# Altium footprint library Connector_USB.PcbLib: 76 footprints (part 1 of 5)
Each footprint in its own frame and in the unit in brackets; x right, y up, seen from the top. Pads: shape width x height; smd on the part's side, far side on the other; paste and mask are expansions set on the pad; w line width, h text height; cw(c..) or ccw(c..) is an arc to the next point about the centre after c.
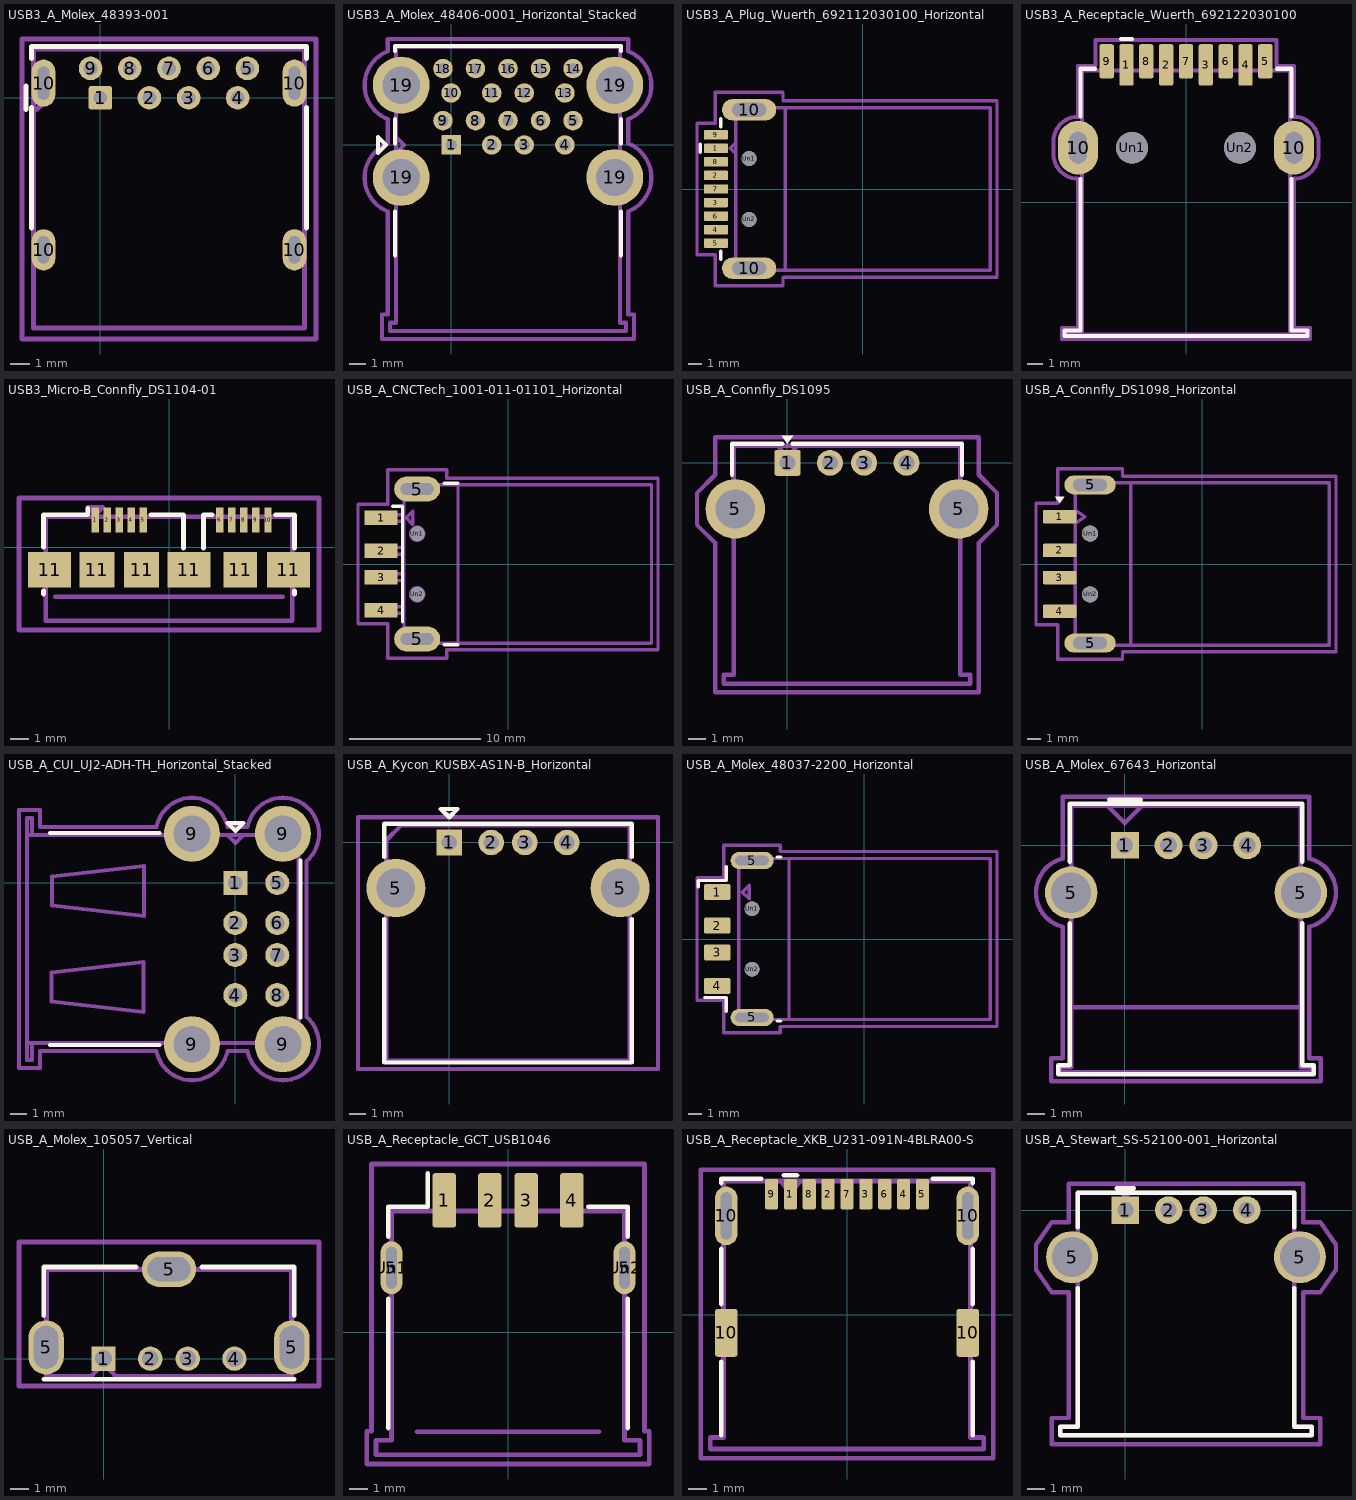
[diagram p0: the footprints below, top view; thin cyan lines are the x and y axes]

## USB3_A_Molex_48393-001 [mm]
pads (13):
  rrect21% 1.2x1.2 hole 0.7: 1(0,0)
  round 1.2 hole 0.7: 2(2.5,0) 3(4.5,0) 4(7,0) 5(7.5,1.5) 6(5.5,1.5) 7(3.5,1.5) 8(1.5,1.5) 9(-0.5,1.5)
  rrect100% 1.2x2.1 hole 1.4 slot 0.6 at 0 deg: 10(-2.9,-7.75) 10(9.9,-7.75)
  rrect100% 1.2x2.4 hole 1.7 slot 0.6 at 0 deg: 10(-2.9,0.75) 10(9.9,0.75)
F.SilkS:
  lines w0.254: -3.8,-0.6 -3.8,0.6 ; -3.51,-6.65 -3.51,-0.5 ; -3.51,2 -3.51,2.61 10.51,2.61 10.51,2 ; 10.51,-6.65 10.51,-0.5
Top Assembly:
  lines w0.254: -3.4,-0.7 -2.55,0 -3.4,0.7 ; -3.4,-11.75 -3.4,2.5 10.4,2.5 10.4,-11.75 -3.4,-11.75
  text "'.Designator'" at -0.547,-5.84 h1
Top Courtyard:
  lines w0.254: -4,-12.3 -4,3 11,3 11,-12.3 -4,-12.3
Top Designator:
  text ".Designator" at -4.118,-5.158 h1.52

## USB3_A_Molex_48406-0001_Horizontal_Stacked [mm]
pads (22):
  rect 1.2x1.2 hole 0.7: 1(0,0)
  round 1.2 hole 0.7: 2(2.5,0) 3(4.5,0) 4(7,0) 5(7.5,1.5) 6(5.5,1.5) 7(3.5,1.5) 8(1.5,1.5) 9(-0.5,1.5) 10(0,3.2) 11(2.5,3.2) 12(4.5,3.2) 13(7,3.2) 14(7.5,4.7) 15(5.5,4.7) 16(3.5,4.7) 17(1.5,4.7) 18(-0.5,4.7)
  round 3.5 hole 2.3: 19(-3.07,-2) 19(-3.07,3.68) 19(10.07,-2) 19(10.07,3.68)
F.SilkS:
  lines w0.254: -3.46,-6.8 -3.46,-4.1 ; -3.46,0.1 -3.46,1.58 ; -3.46,5.78 -3.46,6.08 10.46,6.08 10.46,5.78 ; 10.46,-6.8 10.46,-4.1 ; 10.46,0.1 10.46,1.58 ; -4.5,-0.5 -4,0 -4.5,0.5 -4.5,-0.5
Top Assembly:
  lines w0.254: -3.4,-0.5 -2.9,0 -3.4,0.5 ; -3.75,-11.44 10.75,-11.44 10.75,-10.94 10.4,-10.94 10.4,6.02 -3.4,6.02 -3.4,-10.94 -3.75,-10.94 -3.75,-11.44
  text "'.Designator'" at -0.547,-5.84 h1
Top Courtyard:
  lines w0.254: -4.25,-11.94 -3.9,-11.94 10.9,-11.94 11.25,-11.94 11.25,-10.44 10.9,-10.44 10.9,-4.09 ccw(c10.072,-2) 10.9,0.09 10.9,1.59 ccw(c10.072,3.68) 10.9,5.77 10.9,6.52 -3.9,6.52 -3.9,5.77 ccw(c-3.072,3.68) -3.9,1.59 -3.9,0.09 ccw(c-3.072,-2) -3.9,-4.09 -3.9,-10.44 -4.25,-10.44 -4.25,-11.94
Top Designator:
  text ".Designator" at -4.118,-3.218 h1.52

## USB3_A_Plug_Wuerth_692112030100_Horizontal [mm]
pads (13):
  rrect25% 1.8x0.7 smd: 1(-10.85,3) 2(-10.85,1) 3(-10.85,-1) 4(-10.85,-3) 5(-10.85,-4) 6(-10.85,-2) 7(-10.85,0) 8(-10.85,2) 9(-10.85,4)
  rrect100% 4x1.6 hole 2.5 slot 1 at 90 deg: 10(-8.4,-5.85) 10(-8.4,5.85)
  round 1.1 hole 1.1: Un1(-8.4,2.25) Un2(-8.4,-2.25)
F.SilkS:
  lines w0.254: -12.01,2.7 -12.01,3.3 ; -10.5,-5.19 -10.5,-4.61 ; -10.5,4.61 -10.5,5.19
Top Assembly:
  lines w0.254: -9.4,2.6 -9.8,3 -9.4,3.4 ; -9.4,-6 9.4,-6 9.4,6 -9.4,6 -9.4,-6
  text "'.Designator'" at -4.047,-0.84 h1
Top Courtyard:
  lines w0.254: -12.25,-4.85 -10.9,-4.85 -10.9,-7.15 -5.9,-7.15 -5.9,-6.5 9.9,-6.5 9.9,6.5 -5.9,6.5 -5.9,7.15 -10.9,7.15 -10.9,4.85 -12.25,4.85 -12.25,-4.85
Top Designator:
  text ".Designator" at -8.793,-0.508 h1.52
Dwgs.User:
  lines w0.254: -5.75,-6 -5.75,6
  text "PCB Edge" at -5.91,-2.068 h0.6

## USB3_A_Receptacle_Wuerth_692122030100 [mm]
pads (13):
  rrect25% 0.9x2.6 smd: 1(-3.75,8.67) 2(-1.25,8.67) 3(1.25,8.67) 4(3.75,8.67)
  rrect25% 0.9x2.15 smd: 5(5,8.895) 6(2.5,8.895) 7(0,8.895) 8(-2.5,8.895) 9(-5,8.895)
  rrect100% 2.52x3.4 hole 2 slot 1.12 at 0 deg: 10(-6.8,3.45) 10(6.8,3.45)
  round 2 hole 2: Un1(-3.4,3.45) Un2(3.4,3.45)
F.SilkS:
  lines w0.254: -6.65,1.475 -6.65,-8.05 -7.65,-8.05 -7.65,-8.425 7.65,-8.425 7.65,-8.05 6.65,-8.05 6.65,1.475 ; -6.65,5.425 -6.65,8.425 -5.725,8.425 ; -4.1,10.3 -3.4,10.3 ; 5.725,8.425 6.65,8.425 6.65,5.425
Top Assembly:
  lines w0.254: -4.15,8.33 -3.75,8.73 -3.35,8.33 ; -7.55,-8.33 -6.55,-8.33 6.55,-8.33 7.55,-8.33 7.55,-8.15 6.55,-8.15 6.55,8.33 -6.55,8.33 -6.55,-8.15 -7.55,-8.15 -7.55,-8.33
  text "'.Designator'" at -4.047,2.06 h1
Top Courtyard:
  lines w0.254: -8.35,3.05 ccw(c-6.8,3.05) -6.8,1.5 -6.8,-7.9 -7.8,-7.9 -7.8,-8.6 7.8,-8.6 7.8,-7.9 6.8,-7.9 6.8,1.5 ccw(c6.8,3.05) 8.35,3.05 8.35,3.85 ccw(c6.8,3.85) 6.8,5.4 6.8,8.6 5.7,8.6 5.7,10.25 -5.7,10.25 -5.7,8.6 -6.8,8.6 -6.8,5.4 ccw(c-6.8,3.85) -8.35,3.85 -8.35,3.05
Top Designator:
  text ".Designator" at -7.618,0.342 h1.52

## USB3_Micro-B_Connfly_DS1104-01 [mm]
pads (16):
  rect 0.4x1.35 smd: 1(-3.975,1.475) 2(-3.325,1.475) 3(-2.675,1.475) 4(-2.025,1.475) 5(-1.375,1.475) 6(2.725,1.475) 7(3.375,1.475) 8(4.025,1.475) 9(4.675,1.475) 10(5.325,1.475)
  rect 2.3x1.9 smd: 11(-6.425,-1.2) 11(1.075,-1.2) 11(6.425,-1.2)
  rect 1.9x1.9 smd: 11(-3.875,-1.2) 11(-1.475,-1.2)
  rect 1.8x1.9 smd: 11(3.825,-1.2)
F.SilkS:
  lines w0.254: -6.75,-2.525 -6.75,-2.35 ; -6.75,0 -6.75,1.75 -4.375,1.75 -4.375,2.1 ; -0.975,1.75 0.775,1.75 0.775,-0.05 ; 1.855,-0.05 1.855,1.75 2.325,1.75 ; 5.725,1.75 6.75,1.75 6.75,-0.05 ; 6.75,-2.525 6.75,-2.35
Top Assembly:
  lines w0.254: -6.125,-2.65 6.125,-2.65 ; -6.635,-3.95 6.635,-3.95 6.635,1.65 -6.635,1.65 -6.635,-3.95 ; -4.375,2.15 -3.575,2.15 -3.975,1.75 -4.375,2.15
  text "'.Designator'" at -4.047,-0.381 h1
Top Courtyard:
  lines w0.254: -8.07,-4.45 8.07,-4.45 8.07,2.66 -8.07,2.66 -8.07,-4.45
Top Designator:
  text ".Designator" at -7.618,-1.403 h1.52
Dwgs.User:
  text "PCB Edge" at -1.359,-2.957 h0.4

## USB_A_CNCTech_1001-011-01101_Horizontal [mm]
pads (8):
  rect 2.5x1.1 smd: 1(-9.65,3.5) 2(-9.65,1) 3(-9.65,-1) 4(-9.65,-3.5)
  rrect100% 3.5x1.9 hole 0.9 slot 2.5 at 0 deg: 5(-6.9,-5.7) 5(-6.9,5.7)
  round 1.1 hole 1.1: Un1(-6.9,2.3) Un2(-6.9,-2.3)
F.SilkS:
  lines w0.254: -8.775,4.4 -8.02,4.4 -8.02,-4.4 ; -4.85,-6.145 -3.8,-6.145 ; -4.85,6.145 -3.8,6.145
Top Assembly:
  circle w0.254: c-6.9,-2.3 r0.5
  circle w0.254: c-6.9,2.3 r0.5
  lines w0.254: -7.9,-3.75 -10.4,-3.75 -10.4,-3.25 -7.9,-3.25 ; -7.9,-1.25 -10.4,-1.25 -10.4,-0.75 -7.9,-0.75 ; -7.9,0.75 -10.4,0.75 -10.4,1.25 -7.9,1.25 ; -7.9,3.25 -10.4,3.25 -10.4,3.75 -7.9,3.75 ; -7.25,3 -7.75,3.5 -7.25,4 -7.25,3.05 ; -7.9,-6.025 10.9,-6.025 10.9,6.025 -7.9,6.025 -7.9,-6.025
  text "'.Designator'" at -5.16,-4.047 h1
Top Courtyard:
  lines w0.254: -11.4,-4.55 -9.15,-4.55 -9.15,-7.15 -4.65,-7.15 -4.65,-6.52 11.4,-6.52 11.4,6.52 -4.65,6.52 -4.65,7.15 -9.15,7.15 -9.15,4.55 -11.4,4.55 -11.4,-4.55
Top Designator:
  text ".Designator" at -7.618,-0.508 h1.52
Dwgs.User:
  lines w0.254: -3.8,-6.025 -3.8,6.025
  text "PCB Edge" at -4.06,-2.018 h0.6

## USB_A_Connfly_DS1095 [mm]
pads (6):
  rrect16% 1.524x1.524 hole 0.92: 1(0,0)
  round 1.524 hole 0.92: 2(2.5,0) 3(4.5,0) 4(7,0)
  round 3.5 hole 2.3: 5(-3.07,-2.71) 5(10.07,-2.71)
F.SilkS:
  region: 0,1.12 -0.34,1.59 0.34,1.59
  lines w0.254: -3.26,-0.7 -3.26,1.12 -0.3,1.12 ; 0.3,1.12 10.26,1.12 10.26,-0.7
Top Assembly:
  lines w0.254: -0.57,1.01 0,0.3 0.57,1.01 ; -3.75,-12.99 10.75,-12.99 10.75,-12.46 10.15,-12.46 10.15,1.01 -3.15,1.01 -3.15,-12.46 -3.75,-12.46 -3.75,-12.99
  text "'.Designator'" at -0.547,-6.83 h1
Top Courtyard:
  lines w0.254: -5.32,-3.65 -4.25,-4.72 -4.25,-13.49 11.25,-13.49 11.25,-4.72 12.32,-3.65 12.32,-1.77 11.25,-0.7 11.25,1.51 -4.25,1.51 -4.25,-0.7 -5.32,-1.77 -5.32,-3.65
Top Designator:
  text ".Designator" at -4.118,-6.498 h1.52

## USB_A_Connfly_DS1098_Horizontal [mm]
pads (8):
  rrect25% 2.5x1 smd: 1(-10.55,3.5) 2(-10.55,1) 3(-10.55,-1) 4(-10.55,-3.5)
  rrect100% 3.8x1.4 hole 0.9 slot 2.5 at 0 deg: 5(-8.3,-5.85) 5(-8.3,5.85)
  round 1.2 hole 1.2: Un1(-8.3,2.25) Un2(-8.3,-2.25)
F.SilkS:
  region: -10.55,4.502 -10.89,4.972 -10.21,4.972
Top Assembly:
  lines w0.254: -9.4,3 -8.7,3.5 -9.4,4 ; -9.4,-6 9.4,-6 9.4,6 -9.4,6 -9.4,-6
  text "'.Designator'" at -4.047,-0.84 h1
Top Courtyard:
  lines w0.254: -12.3,-4.5 -10.7,-4.5 -10.7,-7.05 -5.9,-7.05 -5.9,-6.5 9.9,-6.5 9.9,6.5 -5.9,6.5 -5.9,7.05 -10.7,7.05 -10.7,4.5 -12.3,4.5 -12.3,-4.5
Top Designator:
  text ".Designator" at -8.818,-0.508 h1.52
Dwgs.User:
  lines w0.254: -5.3,-6 -5.3,6
  text "PCB Edge" at -3.81,-2.068 h0.6

## USB_A_CUI_UJ2-ADH-TH_Horizontal_Stacked [mm]
pads (12):
  rect 1.5x1.5 hole 0.92: 1(0,0)
  round 1.5 hole 0.92: 2(0,-2.5) 3(0,-4.5) 4(0,-7) 5(2.62,0) 6(2.62,-2.5) 7(2.62,-4.5) 8(2.62,-7)
  round 3.5 hole 2.3: 9(-2.71,-10.07) 9(-2.71,3.07) 9(2.97,-10.07) 9(2.97,3.07)
F.SilkS:
  lines w0.254: -11.58,-10.13 -4.73,-10.13 ; -11.58,3.13 -4.73,3.13 ; 4.07,-8.4 4.07,1.4 ; -0.5,3.75 0.5,3.75 0,3.25 -0.5,3.75
Top Assembly:
  lines w0.254: -0.5,3 0,2.5 0.5,3 ; -13.01,-10 -12.71,-10 -12.71,-11.05 -13.01,-11.05 -13.01,-10 ; -13.01,-10 3.94,-10 3.94,3 -13.01,3 ; -13.01,-10 -13.01,3 ; -13.01,3 -12.71,3 -12.71,4.05 -13.01,4.05 -13.01,3 ; -11.49,-7.405 -5.74,-8.065 -5.74,-4.935 -11.49,-5.595 -11.49,-7.405 ; -11.46,-1.405 -5.71,-2.065 -5.71,1.065 -11.46,0.405 -11.46,-1.405
  text "'.Designator'" at -8.582,-4.34 h1
Top Courtyard:
  lines w0.254: -13.51,-11.55 -12.21,-11.55 -12.21,-10.5 -4.92,-10.5 ccw(c-2.71,-10.07) -0.5,-10.5 0.76,-10.5 ccw(c2.972,-10.07) 4.44,-8.36 4.44,1.36 ccw(c2.972,3.07) 0.76,3.5 -0.5,3.5 ccw(c-2.71,3.07) -4.92,3.5 -12.21,3.5 -12.21,4.55 -13.51,4.55 -13.51,-11.55
Top Designator:
  text ".Designator" at -11.76,-4.008 h1.52

## USB_A_Kycon_KUSBX-AS1N-B_Horizontal [mm]
pads (6):
  rect 1.524x1.524 hole 0.92: 1(0,0)
  round 1.524 hole 0.92: 2(2.5,0) 3(4.5,0) 4(7,0)
  round 3.5 hole 2.3: 5(-3.175,-2.71) 5(10.175,-2.71)
F.SilkS:
  lines w0.254: -3.86,-4.56 -3.86,-13.1 10.86,-13.1 10.86,-4.56 ; -3.86,-0.86 -3.86,1.12 10.86,1.12 10.86,-0.86 ; -0.5,2 0.5,2 0,1.5 -0.5,2
Top Assembly:
  lines w0.254: -3.75,-12.99 10.75,-12.99 10.75,1.01 -2.87,1.01 -3.75,0.13 -3.75,-12.99
  text "'.Designator'" at -1.047,-5.84 h1
Top Courtyard:
  lines w0.254: -5.43,-13.49 12.43,-13.49 12.43,1.51 -5.43,1.51 -5.43,-13.49
Top Designator:
  text ".Designator" at -4.118,-6.253 h1.52

## USB_A_Molex_48037-2200_Horizontal [mm]
pads (8):
  rrect25% 2x1.2 smd: 1(-10.975,3.5) 2(-10.975,1) 3(-10.975,-1) 4(-10.975,-3.5)
  rrect100% 3.2x1.3 hole 0.7 slot 2.5 at 0 deg: 5(-8.375,-5.85) 5(-8.375,5.85)
  round 1.1 hole 1.1: Un1(-8.375,2.25) Un2(-8.375,-2.25)
F.SilkS:
  lines w0.254: -12.4,3.9 -12.4,4.36 -10.3,4.36 -10.3,5.4 ; -11.92,-4.36 -10.3,-4.36 -10.3,-5.4 ; -6.515,-6.11 -6.245,-6.11 ; -6.515,6.11 -6.245,6.11
Top Assembly:
  lines w0.254: -9.375,-6 9.375,-6 9.375,6 -9.375,6 -9.375,-6 ; -9.1,3.5 -8.6,3 -8.6,4 -9.1,3.5
  text "'.Designator'" at -4.047,-0.84 h1
Top Courtyard:
  lines w0.254: -12.48,-4.55 -10.48,-4.55 -10.48,-7 -6.27,-7 -6.27,-6.52 9.88,-6.52 9.88,6.52 -6.27,6.52 -6.27,7 -10.48,7 -10.48,4.55 -12.48,4.55 -12.48,-4.55
Top Designator:
  text ".Designator" at -8.918,-0.508 h1.52
Dwgs.User:
  lines w0.254: -5.625,-6 -5.625,6
  text "PCB Edge" at -5.76,-2.068 h0.6

## USB_A_Molex_67643_Horizontal [mm]
pads (6):
  rect 1.6x1.5 hole 0.95: 1(0,0)
  round 1.6 hole 0.95: 2(2.5,0) 3(4.5,0) 4(7,0)
  round 3 hole 2.3: 5(-3.07,-2.71) 5(10.07,-2.71)
F.SilkS:
  lines w0.254: -3.16,-4.47 -3.16,-12.58 -3.81,-12.58 -3.81,-13.1 10.81,-13.1 10.81,-12.58 10.16,-12.58 10.16,-4.47 ; -3.16,-0.95 -3.16,2.38 10.16,2.38 10.16,-0.95 ; -0.9,2.6 0.9,2.6
Top Assembly:
  lines w0.254: -3.05,-9.27 10.05,-9.27 ; -1,2.27 0,1.27 1,2.27 ; -3.7,-12.99 10.7,-12.99 10.7,-12.69 10.05,-12.69 10.05,2.27 -3.05,2.27 -3.05,-12.69 -3.7,-12.69 -3.7,-12.99
  text "'.Designator'" at -0.547,-4.54 h1
Top Courtyard:
  lines w0.254: -4.2,-13.49 11.2,-13.49 11.2,-12.19 10.55,-12.19 10.55,-4.66 ccw(c10.07,-2.71) 10.55,-0.76 10.55,2.77 -3.55,2.77 -3.55,-0.76 ccw(c-3.07,-2.71) -3.55,-4.66 -3.55,-12.19 -4.2,-12.19 -4.2,-13.49
Top Designator:
  text ".Designator" at -4.118,-5.868 h1.52

## USB_A_Molex_105057_Vertical [mm]
pads (7):
  rect 1.3x1.3 hole 0.9: 1(0,0)
  round 1.3 hole 0.9: 2(2.5,0) 3(4.5,0) 4(7,0)
  rrect100% 1.9x2.9 hole 2.3 slot 1.3 at 0 deg: 5(-3.07,0.6) 5(10.07,0.6)
  rrect100% 2.9x1.9 hole 2.3 slot 1.3 at 90 deg: 5(3.5,4.78)
F.SilkS:
  lines w0.254: -3.2,-1.1 10.2,-1.1 ; -3.2,2.3 -3.2,4.9 1.75,4.9 ; 5.25,4.9 10.2,4.9 10.2,2.3
Top Assembly:
  lines w0.254: -3.05,-0.96 -0.65,-0.96 0,-0.2 0.65,-0.96 10.05,-0.96 10.05,4.76 -3.05,4.76 -3.05,-0.96
  text "'.Designator'" at -0.597,1.31 h1
Top Courtyard:
  lines w0.254: -4.52,-1.46 11.52,-1.46 11.52,6.23 -4.52,6.23 -4.52,-1.46
Top Designator:
  text ".Designator" at -4.118,1.877 h1.52

## USB_A_Receptacle_GCT_USB1046 [mm]
pads (8):
  rrect25% 1.3x3 smd: 1(-3.5,7.25) 2(-1,7.25) 3(1,7.25) 4(3.5,7.25)
  rrect100% 1.2x2.9 hole 2.3 slot 0.6 at 0 deg: 5(-6.4,3.55) 5(6.4,3.55)
  rrect100% 1.2x2.9 on Top Paste: Un1(-6.4,3.55) Un2(6.4,3.55)
F.SilkS:
  lines w0.254: -6.58,-5.25 -6.58,1.84 ; -6.58,5.26 -6.58,6.91 -4.41,6.91 -4.41,8.75 ; 4.41,6.91 6.58,6.91 6.58,5.26 ; 6.58,-5.25 6.58,1.84
Top Assembly:
  lines w0.254: -3.75,6.73 -3.5,6.23 -3.25,6.73 ; -7.25,-6.73 7.25,-6.73 7.25,-5.93 6.4,-5.93 6.4,6.67 -6.4,6.67 -6.4,-5.93 -7.25,-5.93 -7.25,-6.73
  text "'.Designator'" at -4.047,-0.84 h1
Top Courtyard:
  lines w0.254: -7.75,-7.23 7.75,-7.23 7.75,-5.43 7.5,-5.43 7.5,9.25 -7.5,9.25 -7.5,-5.43 -7.75,-5.43 -7.75,-7.23
Top Designator:
  text ".Designator" at -7.618,0.502 h1.52
Dwgs.User:
  lines w0.254: -5,-5.45 5,-5.45
  text "PCB Edge" at -1.748,-5.403 h0.5

## USB_A_Receptacle_XKB_U231-091N-4BLRA00-S [mm]
pads (13):
  rrect25% 0.7x1.6 smd: 1(-3,6.4) 2(-1,6.4) 3(1,6.4) 4(3,6.4) 5(4,6.4) 6(2,6.4) 7(0,6.4) 8(-2,6.4) 9(-4,6.4)
  rrect25% 1.2x2.54 smd: 10(-6.4,-0.95) 10(6.4,-0.95)
  rrect100% 1.2x3.1 hole 2.5 slot 0.6 at 0 deg: 10(-6.4,5.25) 10(6.4,5.25)
F.SilkS:
  lines w0.254: -6.67,-6.38 -6.67,-2.48 ; -6.67,0.58 -6.67,3.5 ; -6.67,7 -6.67,7.22 -4.55,7.22 ; -3.35,7.4 -2.65,7.4 ; 4.55,7.22 6.67,7.22 6.67,7 ; 6.67,-6.38 6.67,-2.48 ; 6.67,0.58 6.67,3.5
Top Assembly:
  lines w0.254: -3.5,7.1 -3,6.45 -2.5,7.1 ; -7.25,-7.1 7.25,-7.1 7.25,-6.5 6.55,-6.5 6.55,7.1 -6.55,7.1 -6.55,-6.5 -7.25,-6.5 -7.25,-7.1
  text "'.Designator'" at -4.047,2.61 h1
Top Courtyard:
  lines w0.254: -7.75,-7.6 7.75,-7.6 7.75,7.7 -7.75,7.7 -7.75,-7.6
Top Designator:
  text ".Designator" at -7.618,-0.458 h1.52

## USB_A_Stewart_SS-52100-001_Horizontal [mm]
pads (6):
  rect 1.6x1.6 hole 0.92: 1(0,0)
  round 1.6 hole 0.92: 2(2.5,0) 3(4.5,0) 4(7,0)
  round 3 hole 2.3: 5(-3.07,-2.71) 5(10.07,-2.71)
F.SilkS:
  lines w0.254: -2.75,-4.49 -2.75,-12.49 -3.75,-12.49 -3.75,-12.99 10.75,-12.99 10.75,-12.49 9.75,-12.49 9.75,-4.49 ; -2.75,-0.99 -2.75,1.01 9.75,1.01 9.75,-0.99 ; -0.5,1.26 0.5,1.26
Top Assembly:
  lines w0.254: -0.25,1.01 0,0.76 0.25,1.01 ; -3.75,-12.99 10.75,-12.99 10.75,-12.49 9.75,-12.49 9.75,1.01 -2.75,1.01 -2.75,-12.49 -3.75,-12.49 -3.75,-12.99
  text "'.Designator'" at -0.547,-6.83 h1
Top Courtyard:
  lines w0.254: -5.15,-3.44 -4.25,-4.74 -3.25,-4.74 -3.25,-11.99 -4.25,-11.99 -4.25,-13.49 11.25,-13.49 11.25,-11.99 10.25,-11.99 10.25,-4.74 11.25,-4.74 12.15,-3.44 12.15,-1.99 11.25,-0.69 10.25,-0.69 10.25,1.51 -3.25,1.51 -3.25,-0.69 -4.25,-0.69 -5.15,-1.99 -5.15,-3.44
Top Designator:
  text ".Designator" at -4.118,-6.498 h1.52